# Altium footprint library tr_s6.PcbLib: 40 footprints (part 1 of 3)
Each footprint in its own frame and in the unit in brackets; x right, y up, seen from the top. Pads: shape width x height; smd on the part's side, far side on the other; paste and mask are expansions set on the pad; w line width, h text height; cw(c..) or ccw(c..) is an arc to the next point about the centre after c.
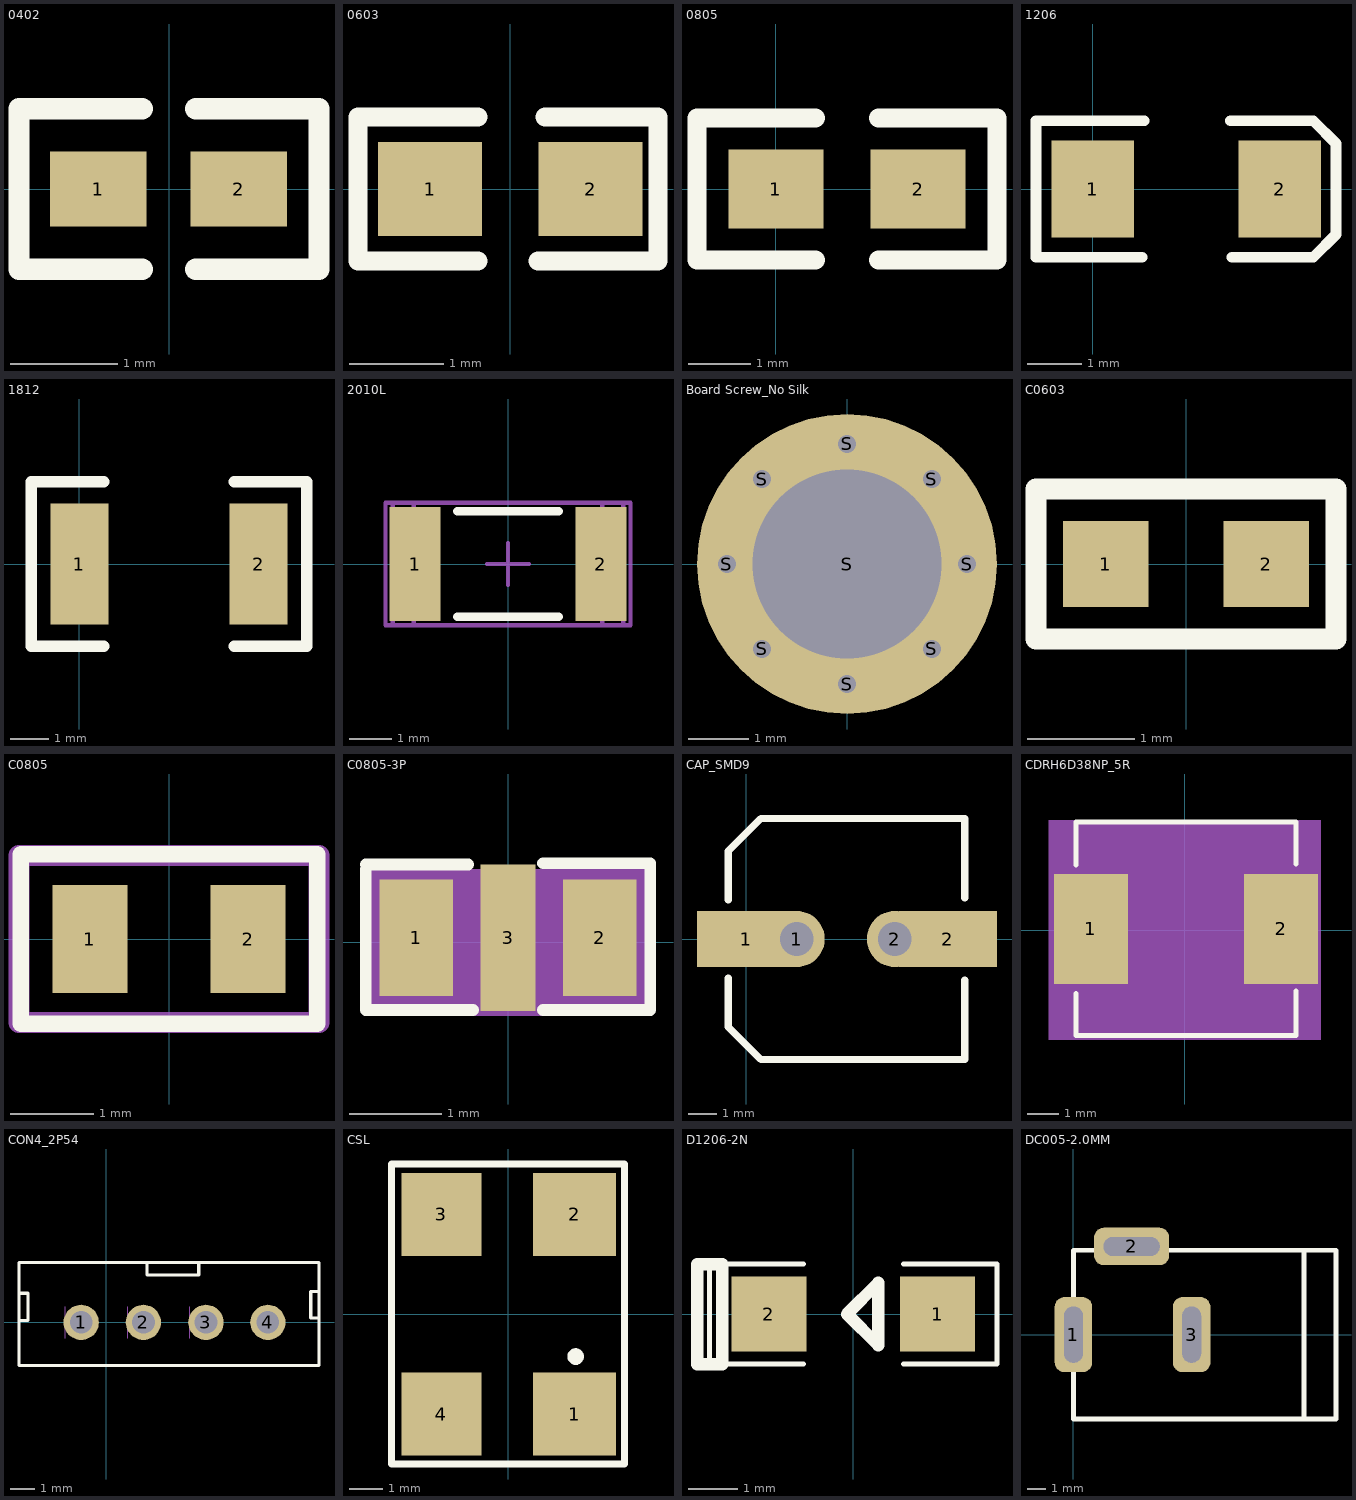
[diagram p0: the footprints below, top view; thin cyan lines are the x and y axes]

## 0402 [mm]
height 5.842
pads (2):
  rect 0.9x0.7 smd: 1(-0.66,0) 2(0.65,0)
Top Overlay:
  lines w0.2: -0.25,-0.75 -1.4,-0.75 -1.4,0.75 -0.25,0.75 ; 0.25,-0.75 1.4,-0.75 1.4,0.75 0.25,0.75

## 0603 [mm]
height 5.842
pads (2):
  rect 1.1x1 smd: 1(-0.85,0) 2(0.85,0)
Top Overlay:
  lines w0.2: -0.342,-0.762 -1.612,-0.762 -1.612,0.762 -0.342,0.762 ; 0.293,-0.762 1.563,-0.762 1.563,0.762 0.367,0.762

## 0805 [mil]
height 230
pads (2):
  rect 60x50 smd: 1(0,0) 2(90,0)
Top Overlay:
  lines w12: 25,-45 -50,-45 -50,45 25,45 ; 65,-45 140,-45 140,45 65,45

## 1206 [mm]
height 5.842
pads (2):
  rect 1.524x1.8 smd: 1(0,0) 2(3.45,0)
Top Overlay:
  lines w0.2: 0.91,-1.26 -1.05,-1.26 -1.05,1.26 0.95,1.26 ; 2.54,1.26 4.07,1.26 4.49,0.84 4.49,-0.84 4.07,-1.26 2.57,-1.26

## 1812 [mil]
height 230
pads (2):
  rect 60x125 smd: 1(0,0.06) 2(185,0.06)
Top Overlay:
  lines w12: 25,-84.94 -50,-84.94 -50,85.06 25,85.06 ; 160,-84.94 235,-84.94 235,85.06 160,85.06

## 2010L [mm] "pitch=4.3mm"
height 0.71
pads (2):
  rect 1.2x2.7 smd: 1(-2.2,0) 2(2.2,0)
Top Overlay:
  lines w0.2: -1.2,-1.25 1.2,-1.25 ; -1.2,1.25 1.2,1.25
Mechanical 5:
  lines w0.1: -2.73,-1.45 2.73,-1.45 2.73,1.45 -2.73,1.45 -2.73,-1.45
  text ".Designator" at 1.295,0.356 h0.81
Mechanical 13:
  lines w0.1: -2.23,-1.45 -2.23,1.45 ; 2.23,-1.45 2.23,1.45 ; -2.73,-1.45 -2.73,1.45 2.73,1.45 2.73,-1.45 -2.73,-1.45
Mechanical 15:
  lines w0.1: -0.5,0 0.5,0 ; 0,-0.5 0,0.5 ; -2.9,-1.45 2.9,-1.45 2.9,1.45 -2.9,1.45 -2.9,-1.45
3D body: height 1.66, standoff 0, extent 2.231,-1.449 2.729,1.449
3D body: height 1.66, standoff 0, extent -2.229,-1.449 2.229,1.449
3D body: height 1.66, standoff 0, extent -2.729,-1.449 -2.231,1.449

## Board Screw_No Silk [mm]
height 2.5
pads (9):
  round 0.6 hole 0.3: S(-2,0) S(-1.414,-1.414) S(-1.414,1.414) S(0,-2) S(0,2) S(1.414,-1.414) S(1.414,1.414) S(2,0)
  round 5 hole 3.15 mask+0.1: S(0,0)

## C0603 [mm]
height 2.5
pads (2):
  rect 0.8x0.8 smd: 1(-0.75,0) 2(0.75,0)
Top Overlay:
  lines w0.2: -1.4,-0.7 1.4,-0.7 1.4,0.7 -1.4,0.7 -1.4,-0.7
Mechanical 16:
  lines w0.15: -1.4,-0.7 -1.4,0.7 1.4,0.7 1.4,-0.7 -1.4,-0.7
  text ".Designator" at -1.1,-0.3 h0.81
3D body "C0603.step": height 0.95, standoff 0.15, extent -0.8,-0.425 0.8,0.435
3D body "C0603.step": height 0.79, standoff 0, extent -0.8,-0.425 0.8,0.435

## C0805 [mm]
height 2.5
pads (2):
  rect 0.9x1.3 smd: 1(-0.95,0) 2(0.95,0)
Top Overlay:
  lines w0.2: -1.778,-1.016 -1.778,1.016 1.778,1.016 1.778,-1.016 -1.778,-1.016
Mechanical 16:
  lines w0.254: -1.8,-1 -1.8,1 1.8,1 1.8,-1 -1.8,-1
  text ".Designator" at 0.7,0.3 h0.81
3D body "CAPC2012X95N EIA 0805.step": height 1.5, standoff 0.55, extent -1,-0.6 1,0.6
3D body "CAPC2012X95N EIA 0805.step": height 0.95, standoff 0, extent -1,-0.6 1,0.6

## C0805-3P [mm] "C0805，NFM or NFL"
height 5.842
pads (3):
  rect 0.8x1.27 smd: 1(-1,0.051) 2(1,0.051)
  rect 0.6x1.6 smd: 3(0,0.051)
Top Overlay:
  lines w0.127: -1.549,-0.737 -0.381,-0.737 ; -1.549,-0.724 -1.549,0.8 ; -1.549,0.851 -0.432,0.851 ; 0.381,-0.737 1.549,-0.737 ; 0.381,0.864 1.549,0.864 1.549,-0.711
Mechanical 10:
  text "1" at -0.838,-0.203 h0.81
  text "2" at 0.838,-0.203 h0.81
Mechanical 12:
  region: -1.549,-0.787 1.549,-0.787 1.549,0.787 -1.549,0.787
Mechanical 13:
  lines w0.025: -1.549,-0.787 1.549,-0.787 1.549,0.787 -1.549,0.787 -1.549,-0.787
  text ".Designator" at -0.178,-0.076 h0.81
3D body: height 3.81, standoff 0, extent -1.549,-0.787 1.549,0.787

## CAP_SMD9 [mm]
height 1.6
pads (4):
  rect 3.5x2 smd: 1(0,0) 2(7.2,0)
  round 2 hole 1.2: 1(1.805,0) 2(5.307,0)
Top Overlay:
  lines w0.254: -0.635,-1.397 -0.635,-3.139 0.526,-4.3 1.16,-4.3 7.8,-4.3 ; -0.635,1.397 -0.635,3.139 0.526,4.3 1.16,4.3 7.8,4.3 7.8,1.471 ; 1.143,-4.3 7.8,-4.3 ; 7.8,-1.471 7.8,-4.3

## CDRH6D38NP_5R [mil] "CDRH6D38NP_5R,magnetica shield,7x7mm"
height 157.48
pads (2):
  rect 92.5x137.8 smd: 1(-117.59,1.5) 2(120.59,1.5)
Top Overlay:
  lines w6: -136.3,-79.5 -136.3,-132.36 139.3,-132.36 139.3,-76.5 ; -136.3,81.5 -136.3,135.36 139.3,135.36 139.3,82.5
Mechanical 10:
  text "1" at -107.59,1.5 h32
  text "2" at 130.59,1.5 h32
Mechanical 12:
  region: -170.5,137.5 -170.5,-137.5 170.5,-137.5 170.5,137.5
3D body: height 150, standoff 0, extent -170.5,-137.5 170.5,137.5

## CON4_2P54 [mil] "Pitch=2.54P,with Wall"
height 196.85
pads (4):
  round 56 hole 36: 1(-39.37,0) 2(59.06,0) 3(158.06,0) 4(256.06,0)
Top Overlay:
  lines w5: -137.37,3 -123.37,3 -123.37,46 -136.37,46 ; 64.63,93 64.63,75 146.63,75 146.63,94 ; 334.63,7 324,7 324,49 335.63,49 ; -137.8,-68 337,-68 337,94.49 -137.8,94.49 -137.8,-68
Mechanical 10:
  text "2" at 69.06,0 h32
  text "1" at -29.37,0 h32
  text "1" at 69.63,0 h32
  text "2" at 168.06,0 h32
  text "1" at 167.63,0 h32
  text "2" at 266.06,0 h32
Mechanical 11:
  lines w1: -64.37,-25 -64.37,25 ; 34.63,-25 34.63,25 ; 64.37,-25 64.37,25 ; 132.63,-25 132.63,25 ; 163.37,-25 163.37,25 ; 261.37,-25 261.37,25

## CSL [mm]
height 2.5
pads (4):
  rect 2.5x2.5 smd: 1(2,-3) 2(2,3)
  rect 2.4x2.5 smd: 3(-2,3) 4(-2,-3)
Top Overlay:
  circle w0.25: c2.032,-1.27 r0.125
  lines w0.2: -3.5,4.5 -3.5,-4.5 3.5,-4.5 3.5,4.5 ; -3.5,4.517 3.5,4.517

## D1206-2N [mil] ",Pin2-Negative"
height 39.37
pads (2):
  rect 60x60 smd: 1(67.5,0) 2(-67.5,0)
Top Overlay:
  lines w4: -40,-40 -115,-40 -115,40 -40,40 ; 40,-40 115,-40 115,40 40,40
  lines w10: -125,-40 -125,40 -105,40 -105,-40 -125,-40 ; -5,0 20,-25 20,25 -5,0

## DC005-2.0MM [mm] "DC005-2.0"
height 5.842
pads (3):
  rrect50% 2x4 hole 3 slot 1 at 0 deg: 1(0,0) 3(6.3,0)
  rrect50% 4x2 hole 3 slot 1 at 90 deg: 2(3.1,4.7)
Top Overlay:
  lines w0.254: 12.3,-4.5 12.3,4.5 ; 0,-4.5 14,-4.5 14,4.5 0,4.5 0,-4.5